# Altium footprint library FT232RL.PcbLib: 3 footprints
Each footprint in its own frame and in the unit in brackets; x right, y up, seen from the top. Pads: shape width x height; smd on the part's side, far side on the other; paste and mask are expansions set on the pad; w line width, h text height; cw(c..) or ccw(c..) is an arc to the next point about the centre after c.
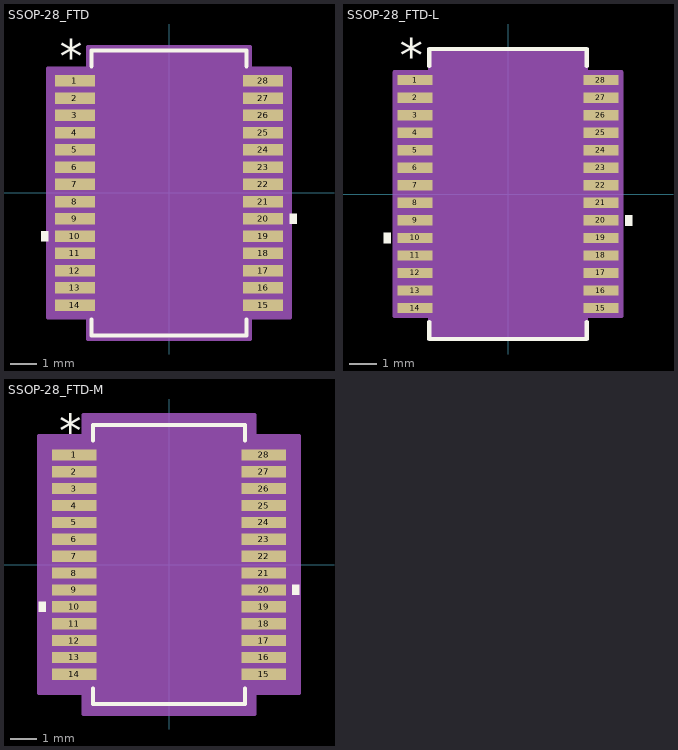
[diagram p0: the footprints below, top view; thin cyan lines are the x and y axes]

## SSOP-28_FTD [mm]
pads (28):
  rect 1.506x0.431 smd paste+0 mask+0: 1(-3.547,4.225) 2(-3.547,3.575) 3(-3.547,2.925) 4(-3.547,2.275) 5(-3.547,1.625) 6(-3.547,0.975) 7(-3.547,0.325) 8(-3.547,-0.325) 9(-3.547,-0.975) 10(-3.547,-1.625) 11(-3.547,-2.275) 12(-3.547,-2.925) 13(-3.547,-3.575) 14(-3.547,-4.225) 15(3.547,-4.225) 16(3.547,-3.575) 17(3.547,-2.925) 18(3.547,-2.275) 19(3.547,-1.625) 20(3.547,-0.975) 21(3.547,-0.325) 22(3.547,0.325) 23(3.547,0.975) 24(3.547,1.625) 25(3.547,2.275) 26(3.547,2.925) 27(3.547,3.575) 28(3.547,4.225)
Top Overlay:
  region: -4.554,-1.434 -4.808,-1.434 -4.808,-1.815 -4.554,-1.815
  region: 4.554,-0.784 4.808,-0.784 4.808,-1.165 4.554,-1.165
  lines w0.152: -2.921,-4.773 -2.921,-5.372 2.921,-5.372 2.921,-4.773 ; -2.921,4.773 -2.921,5.372 2.921,5.372 2.921,4.773
  text "*" at -4.118,4.529 h1.27
  text ".Designator" at -3.492,-0.635 h1.27
Mechanical 13:
  lines w0.025: -0.305,5.245 ccw(c0,5.245) 0.305,5.245 ; -3.95,-4.415 -3.95,-4.034 -2.794,-4.034 -2.794,-4.415 -3.95,-4.415 ; -3.95,-3.765 -3.95,-3.384 -2.794,-3.384 -2.794,-3.765 -3.95,-3.765 ; -3.95,-3.115 -3.95,-2.734 -2.794,-2.734 -2.794,-3.115 -3.95,-3.115 ; -3.95,-2.465 -3.95,-2.084 -2.794,-2.084 -2.794,-2.465 -3.95,-2.465 ; -3.95,-1.815 -3.95,-1.434 -2.794,-1.434 -2.794,-1.815 -3.95,-1.815 ; -3.95,-1.165 -3.95,-0.784 -2.794,-0.784 -2.794,-1.165 -3.95,-1.165 ; -3.95,-0.515 -3.95,-0.134 -2.794,-0.134 -2.794,-0.515 -3.95,-0.515 ; -3.95,0.135 -3.95,0.516 -2.794,0.516 -2.794,0.135 -3.95,0.135 ; -3.95,0.784 -3.95,1.165 -2.794,1.165 -2.794,0.784 -3.95,0.784 ; -3.95,1.435 -3.95,1.816 -2.794,1.816 -2.794,1.435 -3.95,1.435 ; -3.95,2.084 -3.95,2.465 -2.794,2.465 -2.794,2.084 -3.95,2.084 ; -3.95,2.735 -3.95,3.116 -2.794,3.116 -2.794,2.735 -3.95,2.735 ; -3.95,3.384 -3.95,3.765 -2.794,3.765 -2.794,3.384 -3.95,3.384 ; -3.95,4.035 -3.95,4.416 -2.794,4.416 -2.794,4.035 -3.95,4.035 ; -2.794,-5.245 2.794,-5.245 2.794,5.245 -2.794,5.245 -2.794,-5.245 ; 2.794,-4.416 2.794,-4.035 3.95,-4.035 3.95,-4.416 2.794,-4.416 ; 2.794,-3.765 2.794,-3.384 3.95,-3.384 3.95,-3.765 2.794,-3.765 ; 2.794,-3.116 2.794,-2.735 3.95,-2.735 3.95,-3.116 2.794,-3.116 ; 2.794,-2.465 2.794,-2.084 3.95,-2.084 3.95,-2.465 2.794,-2.465 ; 2.794,-1.816 2.794,-1.435 3.95,-1.435 3.95,-1.816 2.794,-1.816 ; 2.794,-1.165 2.794,-0.784 3.95,-0.784 3.95,-1.165 2.794,-1.165 ; 2.794,-0.516 2.794,-0.135 3.95,-0.135 3.95,-0.516 2.794,-0.516 ; 2.794,0.135 2.794,0.516 3.95,0.516 3.95,0.135 2.794,0.135 ; 2.794,0.784 2.794,1.165 3.95,1.165 3.95,0.784 2.794,0.784 ; 2.794,1.435 2.794,1.816 3.95,1.816 3.95,1.435 2.794,1.435 ; 2.794,2.084 2.794,2.465 3.95,2.465 3.95,2.084 2.794,2.084 ; 2.794,2.735 2.794,3.116 3.95,3.116 3.95,2.735 2.794,2.735 ; 2.794,3.384 2.794,3.765 3.95,3.765 3.95,3.384 2.794,3.384 ; 2.794,4.035 2.794,4.416 3.95,4.416 3.95,4.035 2.794,4.035
  text ".Designator" at -3.492,-0.635 h1.27
  text "*" at -2.73,3.899 h1.27
Mechanical 15:
  region: -3.048,-4.694 -4.554,-4.694 -4.554,4.694 -3.048,4.694 -3.048,5.499 3.048,5.499 3.048,4.694 4.554,4.694 4.554,-4.694 3.048,-4.694 3.048,-5.499 -3.048,-5.499
  lines w0.152: -4.554,-4.694 -4.554,4.694 -3.048,4.694 -3.048,5.499 3.048,5.499 3.048,4.694 4.554,4.694 4.554,-4.694 3.048,-4.694 3.048,-5.499 -3.048,-5.499 -3.048,-4.694 -4.554,-4.694
3D body "SSOP-28_FTD.step": height 2.01, standoff 0, extent -3.95,-5.245 3.95,5.245

## SSOP-28_FTD-L [mm]
pads (28):
  rect 1.306x0.381 smd paste+0 mask+0: 1(-3.447,4.225) 2(-3.447,3.575) 3(-3.447,2.925) 4(-3.447,2.275) 5(-3.447,1.625) 6(-3.447,0.975) 7(-3.447,0.325) 8(-3.447,-0.325) 9(-3.447,-0.975) 10(-3.447,-1.625) 11(-3.447,-2.275) 12(-3.447,-2.925) 13(-3.447,-3.575) 14(-3.447,-4.225) 15(3.447,-4.225) 16(3.447,-3.575) 17(3.447,-2.925) 18(3.447,-2.275) 19(3.447,-1.625) 20(3.447,-0.975) 21(3.447,-0.325) 22(3.447,0.325) 23(3.447,0.975) 24(3.447,1.625) 25(3.447,2.275) 26(3.447,2.925) 27(3.447,3.575) 28(3.447,4.225)
Top Overlay:
  region: -4.354,-1.434 -4.608,-1.434 -4.608,-1.815 -4.354,-1.815
  region: 4.354,-0.784 4.608,-0.784 4.608,-1.165 4.354,-1.165
  lines w0.152: -2.921,-4.748 -2.921,-5.372 2.921,-5.372 2.921,-4.748 ; -2.921,4.748 -2.921,5.372 2.921,5.372 2.921,4.748
  text "*" at -4.018,4.479 h1.27
  text ".Designator" at -3.492,-0.635 h1.27
Mechanical 13:
  lines w0.025: -0.305,5.245 ccw(c0,5.245) 0.305,5.245 ; -3.95,-4.415 -3.95,-4.034 -2.794,-4.034 -2.794,-4.415 -3.95,-4.415 ; -3.95,-3.765 -3.95,-3.384 -2.794,-3.384 -2.794,-3.765 -3.95,-3.765 ; -3.95,-3.115 -3.95,-2.734 -2.794,-2.734 -2.794,-3.115 -3.95,-3.115 ; -3.95,-2.465 -3.95,-2.084 -2.794,-2.084 -2.794,-2.465 -3.95,-2.465 ; -3.95,-1.815 -3.95,-1.434 -2.794,-1.434 -2.794,-1.815 -3.95,-1.815 ; -3.95,-1.165 -3.95,-0.784 -2.794,-0.784 -2.794,-1.165 -3.95,-1.165 ; -3.95,-0.515 -3.95,-0.134 -2.794,-0.134 -2.794,-0.515 -3.95,-0.515 ; -3.95,0.135 -3.95,0.516 -2.794,0.516 -2.794,0.135 -3.95,0.135 ; -3.95,0.784 -3.95,1.165 -2.794,1.165 -2.794,0.784 -3.95,0.784 ; -3.95,1.435 -3.95,1.816 -2.794,1.816 -2.794,1.435 -3.95,1.435 ; -3.95,2.084 -3.95,2.465 -2.794,2.465 -2.794,2.084 -3.95,2.084 ; -3.95,2.735 -3.95,3.116 -2.794,3.116 -2.794,2.735 -3.95,2.735 ; -3.95,3.384 -3.95,3.765 -2.794,3.765 -2.794,3.384 -3.95,3.384 ; -3.95,4.035 -3.95,4.416 -2.794,4.416 -2.794,4.035 -3.95,4.035 ; -2.794,-5.245 2.794,-5.245 2.794,5.245 -2.794,5.245 -2.794,-5.245 ; 2.794,-4.416 2.794,-4.035 3.95,-4.035 3.95,-4.416 2.794,-4.416 ; 2.794,-3.765 2.794,-3.384 3.95,-3.384 3.95,-3.765 2.794,-3.765 ; 2.794,-3.116 2.794,-2.735 3.95,-2.735 3.95,-3.116 2.794,-3.116 ; 2.794,-2.465 2.794,-2.084 3.95,-2.084 3.95,-2.465 2.794,-2.465 ; 2.794,-1.816 2.794,-1.435 3.95,-1.435 3.95,-1.816 2.794,-1.816 ; 2.794,-1.165 2.794,-0.784 3.95,-0.784 3.95,-1.165 2.794,-1.165 ; 2.794,-0.516 2.794,-0.135 3.95,-0.135 3.95,-0.516 2.794,-0.516 ; 2.794,0.135 2.794,0.516 3.95,0.516 3.95,0.135 2.794,0.135 ; 2.794,0.784 2.794,1.165 3.95,1.165 3.95,0.784 2.794,0.784 ; 2.794,1.435 2.794,1.816 3.95,1.816 3.95,1.435 2.794,1.435 ; 2.794,2.084 2.794,2.465 3.95,2.465 3.95,2.084 2.794,2.084 ; 2.794,2.735 2.794,3.116 3.95,3.116 3.95,2.735 2.794,2.735 ; 2.794,3.384 2.794,3.765 3.95,3.765 3.95,3.384 2.794,3.384 ; 2.794,4.035 2.794,4.416 3.95,4.416 3.95,4.035 2.794,4.035
  text ".Designator" at -3.492,-0.635 h1.27
  text "*" at -2.73,3.899 h1.27
Mechanical 15:
  region: -2.896,-4.517 -4.201,-4.517 -4.201,4.517 -2.896,4.517 -2.896,5.347 2.896,5.347 2.896,4.517 4.201,4.517 4.201,-4.517 2.896,-4.517 2.896,-5.347 -2.896,-5.347
  lines w0.152: -4.201,-4.517 -4.201,4.517 -2.896,4.517 -2.896,5.347 2.896,5.347 2.896,4.517 4.201,4.517 4.201,-4.517 2.896,-4.517 2.896,-5.347 -2.896,-5.347 -2.896,-4.517 -4.201,-4.517
3D body "SSOP-28_FTD.step": height 2.01, standoff 0, extent -3.95,-5.245 3.95,5.245

## SSOP-28_FTD-M [mm]
pads (28):
  rect 1.706x0.431 smd paste+0 mask+0: 1(-3.647,4.225) 2(-3.647,3.575) 3(-3.647,2.925) 4(-3.647,2.275) 5(-3.647,1.625) 6(-3.647,0.975) 7(-3.647,0.325) 8(-3.647,-0.325) 9(-3.647,-0.975) 10(-3.647,-1.625) 11(-3.647,-2.275) 12(-3.647,-2.925) 13(-3.647,-3.575) 14(-3.647,-4.225) 15(3.647,-4.225) 16(3.647,-3.575) 17(3.647,-2.925) 18(3.647,-2.275) 19(3.647,-1.625) 20(3.647,-0.975) 21(3.647,-0.325) 22(3.647,0.325) 23(3.647,0.975) 24(3.647,1.625) 25(3.647,2.275) 26(3.647,2.925) 27(3.647,3.575) 28(3.647,4.225)
Top Overlay:
  region: -4.754,-1.434 -5.008,-1.434 -5.008,-1.815 -4.754,-1.815
  region: 4.754,-0.784 5.008,-0.784 5.008,-1.165 4.754,-1.165
  lines w0.152: -2.921,-4.773 -2.921,-5.372 2.921,-5.372 2.921,-4.773 ; -2.921,4.773 -2.921,5.372 2.921,5.372 2.921,4.773
  text "*" at -4.218,4.529 h1.27
  text ".Designator" at -3.492,-0.635 h1.27
Mechanical 13:
  lines w0.025: -0.305,5.245 ccw(c0,5.245) 0.305,5.245 ; -3.95,-4.415 -3.95,-4.034 -2.794,-4.034 -2.794,-4.415 -3.95,-4.415 ; -3.95,-3.765 -3.95,-3.384 -2.794,-3.384 -2.794,-3.765 -3.95,-3.765 ; -3.95,-3.115 -3.95,-2.734 -2.794,-2.734 -2.794,-3.115 -3.95,-3.115 ; -3.95,-2.465 -3.95,-2.084 -2.794,-2.084 -2.794,-2.465 -3.95,-2.465 ; -3.95,-1.815 -3.95,-1.434 -2.794,-1.434 -2.794,-1.815 -3.95,-1.815 ; -3.95,-1.165 -3.95,-0.784 -2.794,-0.784 -2.794,-1.165 -3.95,-1.165 ; -3.95,-0.515 -3.95,-0.134 -2.794,-0.134 -2.794,-0.515 -3.95,-0.515 ; -3.95,0.135 -3.95,0.516 -2.794,0.516 -2.794,0.135 -3.95,0.135 ; -3.95,0.784 -3.95,1.165 -2.794,1.165 -2.794,0.784 -3.95,0.784 ; -3.95,1.435 -3.95,1.816 -2.794,1.816 -2.794,1.435 -3.95,1.435 ; -3.95,2.084 -3.95,2.465 -2.794,2.465 -2.794,2.084 -3.95,2.084 ; -3.95,2.735 -3.95,3.116 -2.794,3.116 -2.794,2.735 -3.95,2.735 ; -3.95,3.384 -3.95,3.765 -2.794,3.765 -2.794,3.384 -3.95,3.384 ; -3.95,4.035 -3.95,4.416 -2.794,4.416 -2.794,4.035 -3.95,4.035 ; -2.794,-5.245 2.794,-5.245 2.794,5.245 -2.794,5.245 -2.794,-5.245 ; 2.794,-4.416 2.794,-4.035 3.95,-4.035 3.95,-4.416 2.794,-4.416 ; 2.794,-3.765 2.794,-3.384 3.95,-3.384 3.95,-3.765 2.794,-3.765 ; 2.794,-3.116 2.794,-2.735 3.95,-2.735 3.95,-3.116 2.794,-3.116 ; 2.794,-2.465 2.794,-2.084 3.95,-2.084 3.95,-2.465 2.794,-2.465 ; 2.794,-1.816 2.794,-1.435 3.95,-1.435 3.95,-1.816 2.794,-1.816 ; 2.794,-1.165 2.794,-0.784 3.95,-0.784 3.95,-1.165 2.794,-1.165 ; 2.794,-0.516 2.794,-0.135 3.95,-0.135 3.95,-0.516 2.794,-0.516 ; 2.794,0.135 2.794,0.516 3.95,0.516 3.95,0.135 2.794,0.135 ; 2.794,0.784 2.794,1.165 3.95,1.165 3.95,0.784 2.794,0.784 ; 2.794,1.435 2.794,1.816 3.95,1.816 3.95,1.435 2.794,1.435 ; 2.794,2.084 2.794,2.465 3.95,2.465 3.95,2.084 2.794,2.084 ; 2.794,2.735 2.794,3.116 3.95,3.116 3.95,2.735 2.794,2.735 ; 2.794,3.384 2.794,3.765 3.95,3.765 3.95,3.384 2.794,3.384 ; 2.794,4.035 2.794,4.416 3.95,4.416 3.95,4.035 2.794,4.035
  text ".Designator" at -3.492,-0.635 h1.27
  text "*" at -2.73,3.899 h1.27
Mechanical 15:
  region: -3.302,-4.948 -5.008,-4.948 -5.008,4.948 -3.302,4.948 -3.302,5.753 3.302,5.753 3.302,4.948 5.008,4.948 5.008,-4.948 3.302,-4.948 3.302,-5.753 -3.302,-5.753
  lines w0.152: -5.008,-4.948 -5.008,4.948 -3.302,4.948 -3.302,5.753 3.302,5.753 3.302,4.948 5.008,4.948 5.008,-4.948 3.302,-4.948 3.302,-5.753 -3.302,-5.753 -3.302,-4.948 -5.008,-4.948
3D body "SSOP-28_FTD.step": height 2.01, standoff 0, extent -3.95,-5.245 3.95,5.245